# Altium footprint library ESDA17P20-1F2.PcbLib: 1 footprints
Each footprint in its own frame and in the unit in brackets; x right, y up, seen from the top. Pads: shape width x height; smd on the part's side, far side on the other; paste and mask are expansions set on the pad; w line width, h text height; cw(c..) or ccw(c..) is an arc to the next point about the centre after c.
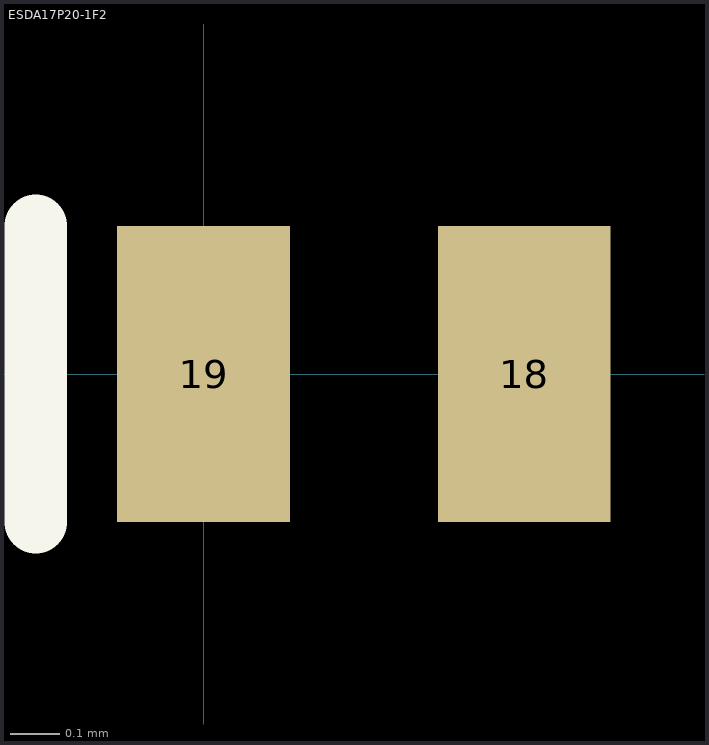
[diagram p0: the footprint, top view; thin cyan lines are the x and y axes]

## ESDA17P20-1F2 [mm]
pads (2):
  rect 0.35x0.6 smd: 18(0.65,0) 19(0,0)
Top Overlay:
  lines w0.127: -0.34,-0.3 -0.34,0.3
3D body: height 0.35, standoff 0, extent -0.175,-0.3 0.825,0.299